# Altium footprint library byggern-pcb-libary.PcbLib: 6 footprints
Each footprint in its own frame and in the unit in brackets; x right, y up, seen from the top. Pads: shape width x height; smd on the part's side, far side on the other; paste and mask are expansions set on the pad; w line width, h text height; cw(c..) or ccw(c..) is an arc to the next point about the centre after c.
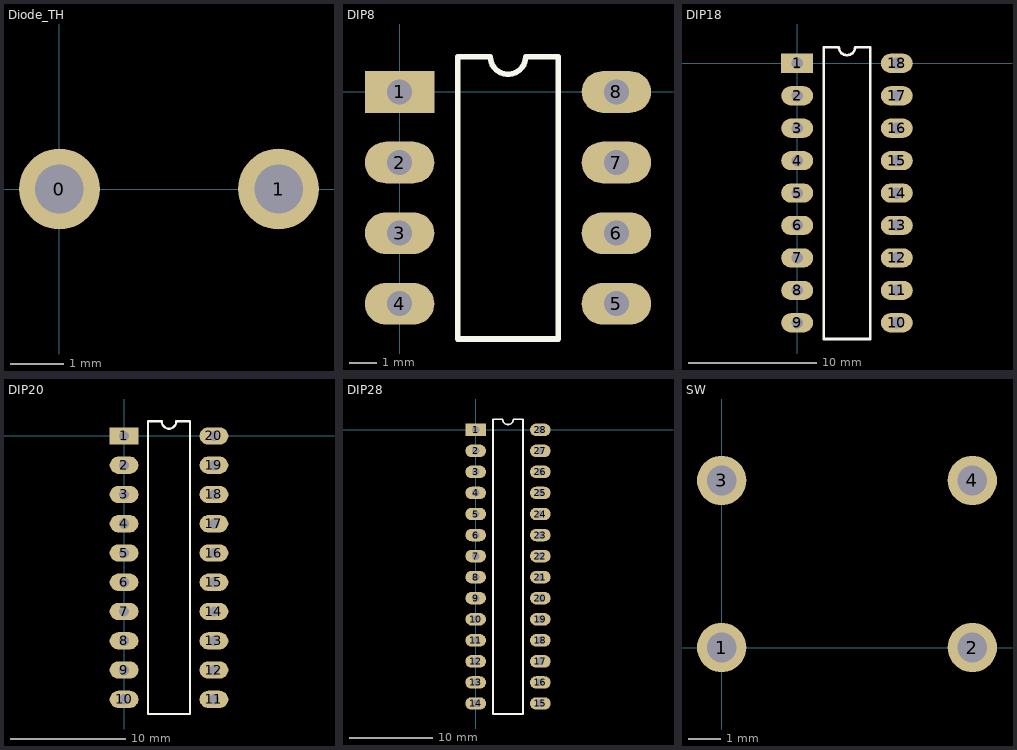
[diagram p0: the footprints below, top view; thin cyan lines are the x and y axes]

## Diode_TH [mm]
pads (2):
  round 1.5 hole 0.9: 0(0,0) 1(4.064,0)

## DIP8 [mm]
pads (8):
  rect 2.5x1.5 hole 0.9: 1(0,0)
  oval 2.5x1.5 hole 0.9: 2(0,-2.54) 3(0,-5.08) 4(0,-7.62) 5(7.8,-7.62) 6(7.8,-5.08) 7(7.8,-2.54) 8(7.8,0)
Top Overlay:
  lines w0.2: 2.085,-8.89 5.715,-8.89 5.715,1.27 4.535,1.27 cw(c3.9,1.27) 3.265,1.27 2.085,1.27 2.085,-8.89

## DIP18 [mm]
pads (18):
  rect 2.5x1.5 hole 0.9: 1(0,0)
  oval 2.5x1.5 hole 0.9: 2(0,-2.54) 3(0,-5.08) 4(0,-7.62) 5(0,-10.16) 6(0,-12.7) 7(0,-15.24) 8(0,-17.78) 9(0,-20.32) 10(7.8,-20.32) 11(7.8,-17.78) 12(7.8,-15.24) 13(7.8,-12.7) 14(7.8,-10.16) 15(7.8,-7.62) 16(7.8,-5.08) 17(7.8,-2.54) 18(7.8,0)
Top Overlay:
  lines w0.2: 2.085,-21.59 5.715,-21.59 5.715,1.27 4.535,1.27 cw(c3.9,1.27) 3.265,1.27 2.085,1.27 2.085,-21.59

## DIP20 [mm]
pads (20):
  rect 2.5x1.5 hole 0.9: 1(0,0)
  oval 2.5x1.5 hole 0.9: 2(0,-2.54) 3(0,-5.08) 4(0,-7.62) 5(0,-10.16) 6(0,-12.7) 7(0,-15.24) 8(0,-17.78) 9(0,-20.32) 10(0,-22.86) 11(7.8,-22.86) 12(7.8,-20.32) 13(7.8,-17.78) 14(7.8,-15.24) 15(7.8,-12.7) 16(7.8,-10.16) 17(7.8,-7.62) 18(7.8,-5.08) 19(7.8,-2.54) 20(7.8,0)
Top Overlay:
  lines w0.2: 2.085,-24.13 5.715,-24.13 5.715,1.27 4.535,1.27 cw(c3.9,1.27) 3.265,1.27 2.085,1.27 2.085,-24.13

## DIP28 [mm]
pads (28):
  rect 2.5x1.5 hole 0.9: 1(0,0)
  oval 2.5x1.5 hole 0.9: 2(0,-2.54) 3(0,-5.08) 4(0,-7.62) 5(0,-10.16) 6(0,-12.7) 7(0,-15.24) 8(0,-17.78) 9(0,-20.32) 10(0,-22.86) 11(0,-25.4) 12(0,-27.94) 13(0,-30.48) 14(0,-33.02) 15(7.8,-33.02) 16(7.8,-30.48) 17(7.8,-27.94) 18(7.8,-25.4) 19(7.8,-22.86) 20(7.8,-20.32) 21(7.8,-17.78) 22(7.8,-15.24) 23(7.8,-12.7) 24(7.8,-10.16) 25(7.8,-7.62) 26(7.8,-5.08) 27(7.8,-2.54) 28(7.8,0)
Top Overlay:
  lines w0.2: 2.085,-34.29 2.085,1.27 3.265,1.27 ccw(c3.9,1.27) 4.535,1.27 5.715,1.27 5.715,-34.29 2.085,-34.29

## SW [mm]
pads (4):
  round 1.5 hole 0.9: 1(0,0) 2(7.62,0) 3(0,5.08) 4(7.62,5.08)